# Altium schematic symbol library Schlib1.SchLib: 9 symbols
Pins are listed as number, name and electrical type; pins without a type are passive.

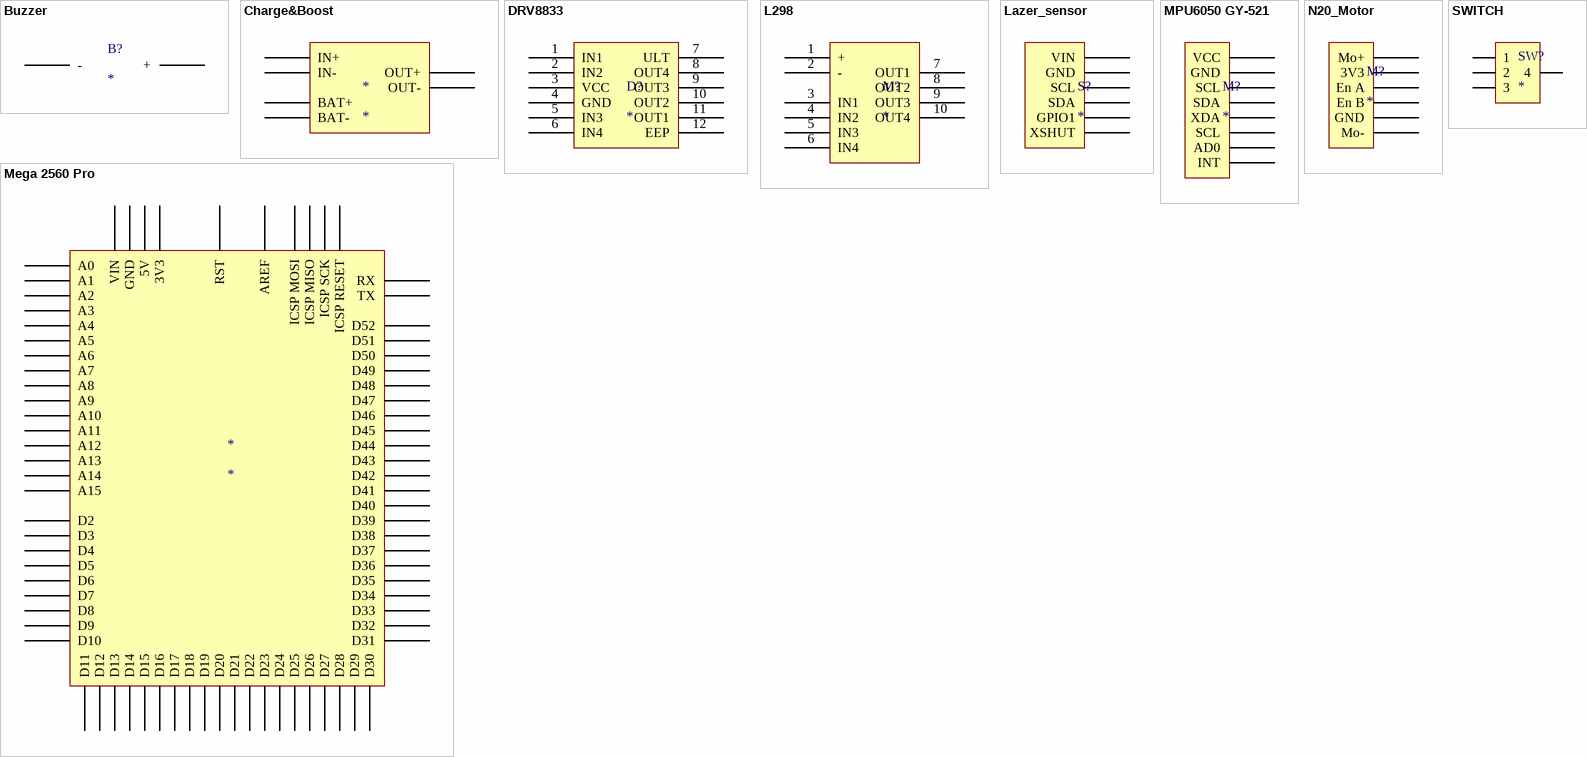
[diagram p0: symbols Buzzer to SWITCH]

## Buzzer
designator B?
12xx
footprint Buzzer
pins: +, -

## Charge&Boost
designator *
footprint Charge&Boost
pins: BAT+, BAT-, IN+, IN-, OUT+, OUT-

## DRV8833
designator D?
Module
footprint DRV8833 (Module)
pins: 1 IN1, 2 IN2, 3 VCC, 4 GND, 5 IN3, 6 IN4, 7 ULT, 8 OUT4, 9 OUT3, 10 OUT2, 11 OUT1, 12 EEP

## L298
designator M?
Module Mini
footprint L298 (Module)
pins: 1 +, 2 -, 3 IN1, 4 IN2, 5 IN3, 6 IN4, 7 OUT1, 8 OUT2, 9 OUT3, 10 OUT4

## Lazer_sensor
designator S?
VL53L0X (ToF-F) 940nm GY-VL53L0XV2 I2C
footprint Lazer_Sensor (VL53L0X (ToF-F) 940nm GY-VL53L0XV2 I2C)
pins: 1 VIN, 2 GND, 3 SCL, 4 SDA, 5 GPIO1, 6 XSHUT

## Mega 2560 Pro
designator *
footprint Mega 2560 Pro (Module)
pins: 3V3, 5V, A0, A1, A2, A3, A4, A5, A6, A7, A8, A9, A10, A11, A12, A13, A14, A15, AREF, D2, D3, D4, D5, D6, D7, D8, D9, D10, D11, D12, D13, D14, D15, D16, D17, D18, D19, D20, D21, D22, D23, D24, D25, D26, D27, D28, D29, D30, D31, D32, D33, D34, D35, D36, D37, D38, D39, D40, D41, D42, D43, D44, D45, D46, D47, D48, D49, D50, D51, D52, GND, MI ICSP MISO, MO ICSP MOSI, RS ICSP RESET, RST, RX, SCK ICSP SCK, TX, VIN

## MPU6050 GY-521
designator M?
Module
footprint MPU6050 GY-521 (mODULE)
pins: 1 VCC, 2 GND, 3 SCL, 4 SDA, 5 XDA, 6 SCL, 7 AD0, 8 INT

## N20_Motor
designator M?
N20 encoder
footprint N20_Motor (N20 Encoder)
pins: 1 Mo+, 2 3V3, 3 En A, 4 En B, 5 GND, 6 Mo-

## SWITCH
designator SW?
footprint SWITCH
pins: 1, 2, 3, 4